# Altium footprint library Candunio.PcbLib: 17 footprints (part 1 of 2)
Each footprint in its own frame and in the unit in brackets; x right, y up, seen from the top. Pads: shape width x height; smd on the part's side, far side on the other; paste and mask are expansions set on the pad; w line width, h text height; cw(c..) or ccw(c..) is an arc to the next point about the centre after c.
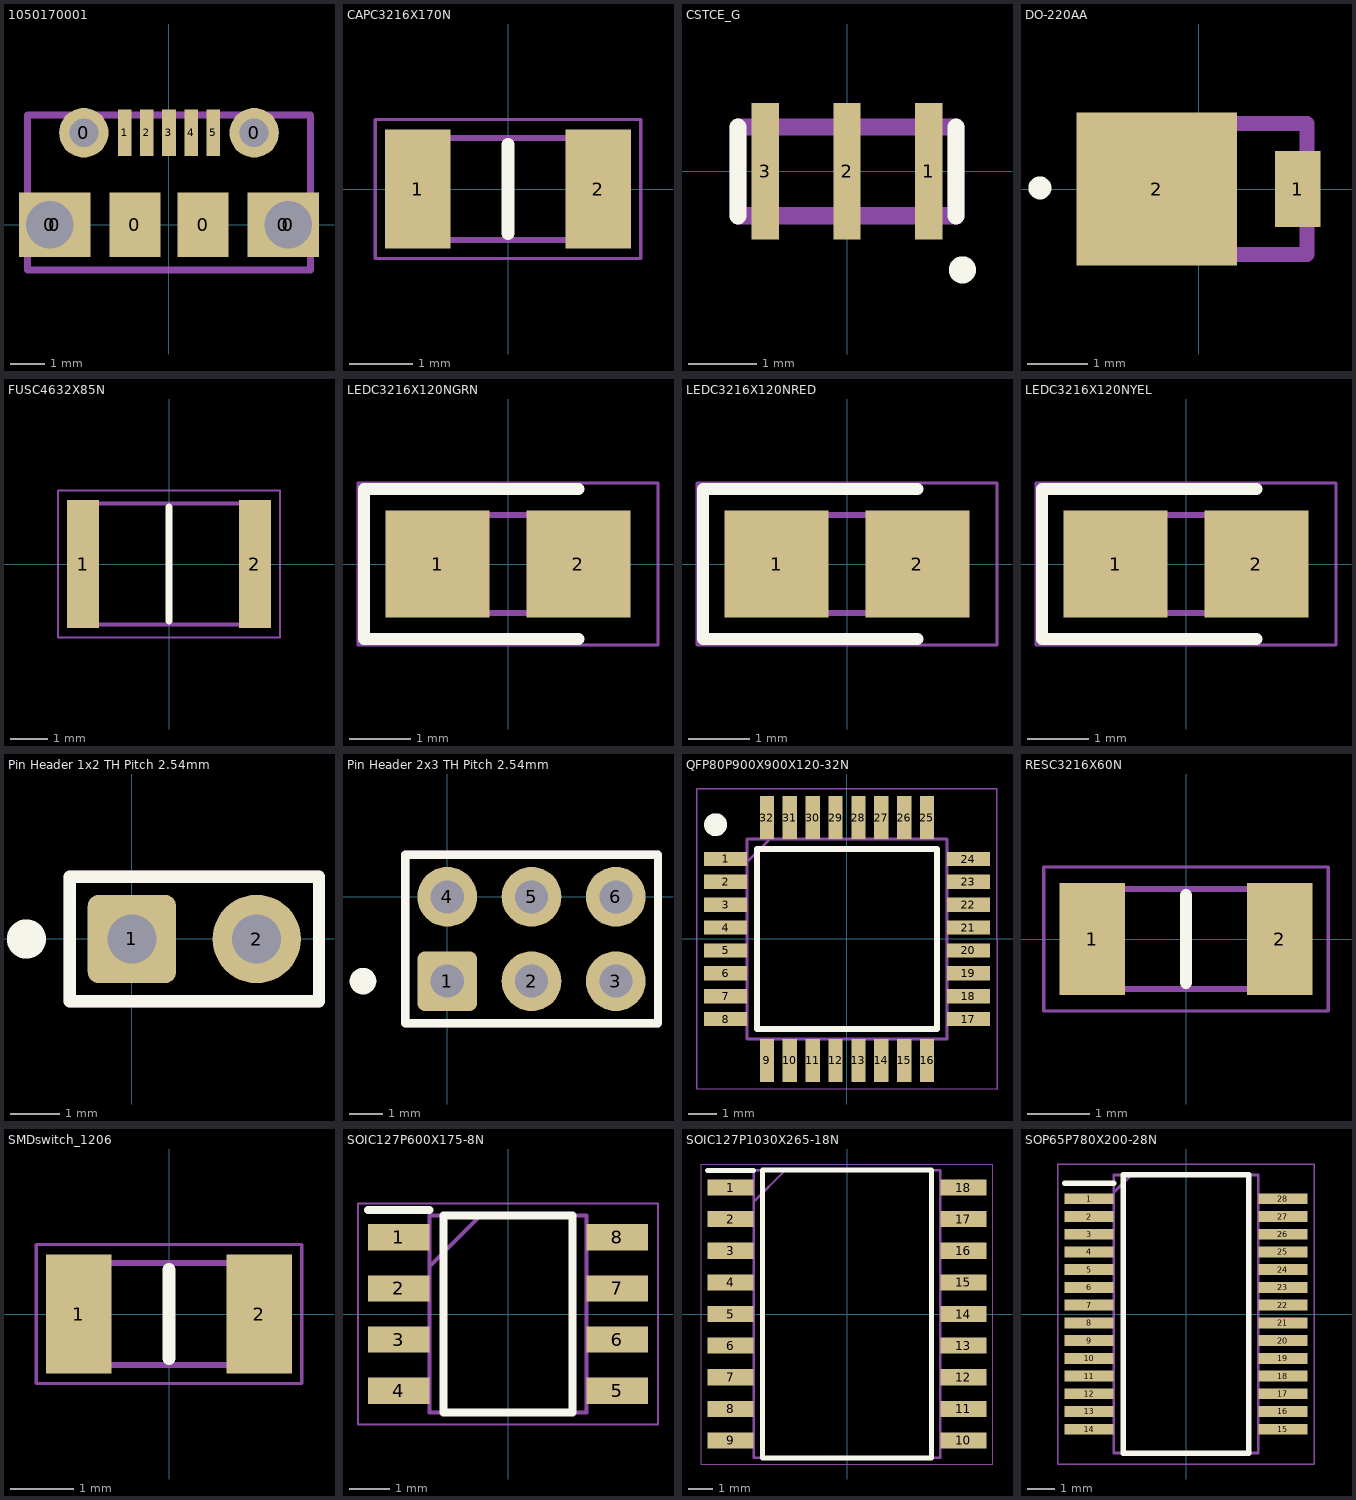
[diagram p0: the footprints below, top view; thin cyan lines are the x and y axes]

## 1050170001 [mm]
pads (13):
  round 1.8 hole 1.4: 0(-3.5,0) 0(3.5,0)
  rect 2.1x1.9 smd: 0(-3.35,0) 0(3.35,0)
  round 1.45 hole 0.85: 0(-2.5,2.7) 0(2.5,2.7)
  rect 1.5x1.9 smd: 0(-1,0) 0(1,0)
  rect 0.4x1.35 smd: 1(-1.3,2.7) 2(-0.65,2.7) 3(0,2.7) 4(0.65,2.7) 5(1.3,2.7)
Mechanical 15:
  lines w0.2: 4.1,3.225 -4.15,3.225 -4.15,-1.325 4.15,-1.325 4.15,3.225
3D body "1050170001.stp": height 2.78, standoff -0.53, extent -4.1,-2.5 4.1,2.9

## CAPC3216X170N [mm]
pads (2):
  rect 1.03x1.87 smd: 1(-1.42,0) 2(1.42,0)
Top Overlay:
  lines w0.2: 0,-0.7 0,0.7
Mechanical 15:
  lines w0.1: -1.6,-0.8 1.6,-0.8 1.6,0.8 -1.6,0.8 -1.6,-0.8
Mechanical 16:
  lines w0.05: -2.085,-1.09 2.085,-1.09 2.085,1.09 -2.085,1.09 -2.085,-1.09
3D body "VJ1206Y104JXQPW1BC.stp": height 1.7, standoff 0, extent -1.6,-0.8 1.6,0.8

## CSTCE_G [mm]
pads (3):
  rect 0.4x2 smd: 1(1.2,0) 2(0,0) 3(-1.2,0)
Top Overlay:
  circle w0.254: c1.693,-1.444 r0.072
  lines w0.254: -1.6,-0.65 -1.6,0.65 ; 1.6,-0.65 1.6,0.65
Mechanical 15:
  lines w0.254: -1.6,-0.65 1.6,-0.65 1.6,0.65 -1.6,0.65 -1.6,-0.65
3D body "ceramic-resonator-smd-3mm2x1mm3-muratea-cstce.stp": height 0.7, standoff 0, extent -1.6,-0.65 1.6,0.65

## DO-220AA [mil]
pads (2):
  rect 30x50 smd: 1(65.06,0)
  rect 105.12x100 smd: 2(-27.5,0)
Top Overlay:
  circle w10: c-104.06,0.75 r2.55
Mechanical 15:
  lines w10: -71.06,-42.91 -71.06,42.91 71.06,42.91 71.06,-42.91 -71.06,-42.91
3D body "SMP Package.STEP": height 39.37, standoff 0, extent -75.79,-40 75.78,39.92

## FUSC4632X85N [mm]
pads (2):
  rect 0.85x3.43 smd: 1(-2.3,0) 2(2.3,0)
Top Overlay:
  lines w0.2: 0,-1.52 0,1.52
Mechanical 15:
  lines w0.1: -2.275,-1.62 2.275,-1.62 2.275,1.62 -2.275,1.62 -2.275,-1.62
Mechanical 16:
  lines w0.05: -2.975,-1.965 2.975,-1.965 2.975,1.965 -2.975,1.965 -2.975,-1.965
3D body "fusegood.STEP": height 0.54, standoff -0.14, extent -2.535,-1.649 2.535,1.651
3D body: height 0.4, standoff 0, extent -0.737,-3.2 -0.737,-3.2

## LEDC3216X120NGRN [mm]
pads (2):
  rect 1.7x1.75 smd: 1(-1.15,0) 2(1.15,0)
Top Overlay:
  lines w0.2: 1.15,-1.225 -2.35,-1.225 -2.35,1.225 1.15,1.225
Mechanical 15:
  lines w0.1: -1.6,0.267 -1.067,0.8 ; -1.6,-0.8 1.6,-0.8 1.6,0.8 -1.6,0.8 -1.6,-0.8
Mechanical 16:
  lines w0.05: -2.45,-1.325 2.45,-1.325 2.45,1.325 -2.45,1.325 -2.45,-1.325
3D body "LED 1206 Grn.stp": height 1.1, standoff 0, extent -1.6,-0.8 1.6,0.8

## LEDC3216X120NRED [mm]
pads (2):
  rect 1.7x1.75 smd: 1(-1.15,0) 2(1.15,0)
Top Overlay:
  lines w0.2: 1.15,-1.225 -2.35,-1.225 -2.35,1.225 1.15,1.225
Mechanical 15:
  lines w0.1: -1.6,0.267 -1.067,0.8 ; -1.6,-0.8 -1.6,0.8 1.6,0.8 1.6,-0.8 -1.6,-0.8
Mechanical 16:
  lines w0.05: -2.45,-1.325 -2.45,1.325 2.45,1.325 2.45,-1.325 -2.45,-1.325
3D body "LED 1206 Red.stp": height 1.1, standoff 0, extent -1.6,-0.8 1.6,0.8

## LEDC3216X120NYEL [mm]
pads (2):
  rect 1.7x1.75 smd: 1(-1.15,0) 2(1.15,0)
Top Overlay:
  lines w0.2: 1.15,-1.225 -2.35,-1.225 -2.35,1.225 1.15,1.225
Mechanical 15:
  lines w0.1: -1.6,0.267 -1.067,0.8 ; -1.6,-0.8 -1.6,0.8 1.6,0.8 1.6,-0.8 -1.6,-0.8
Mechanical 16:
  lines w0.05: -2.45,-1.325 -2.45,1.325 2.45,1.325 2.45,-1.325 -2.45,-1.325
3D body "LED 1206 Yel.stp": height 1.1, standoff 0, extent -1.6,-0.8 1.6,0.8

## Pin Header 1x2 TH Pitch 2.54mm [mm]
pads (2):
  rrect25% 1.8x1.8 hole 1: 1(0,0)
  round 1.8 hole 1: 2(2.54,0)
Top Overlay:
  circle w0.5: c-2.15,0 r0.15
  lines w0.254: 1.27,1.27 -1.27,1.27 ; -1.27,1.27 -1.27,-1.27 3.81,-1.27 3.81,1.27 -1.27,1.27
Mechanical 3:
  lines w0.254: 1.27,1.27 -1.27,1.27 ; -1.27,1.27 -1.27,-1.27 3.81,-1.27 3.81,1.27 -1.27,1.27
3D body "Pin Header 1x2 TH Pitch 2.54mm.stp": height 9.5, standoff -3.2, extent -1.27,-1.27 3.81,1.27

## Pin Header 2x3 TH Pitch 2.54mm [mm]
pads (6):
  rrect25% 1.8x1.8 hole 1: 1(0,-2.54)
  round 1.8 hole 1: 2(2.54,-2.54) 3(5.08,-2.54) 4(0,0) 5(2.54,0) 6(5.08,0)
Top Overlay:
  circle w0.5: c-2.54,-2.54 r0.15
  lines w0.254: 1.27,1.27 -1.27,1.27 ; -1.27,1.27 -1.27,-1.27 -1.27,-3.81 6.35,-3.81 6.35,-1.27 6.35,1.27 -1.27,1.27
Mechanical 3:
  lines w0.254: 1.27,1.27 -1.27,1.27 ; -1.27,1.27 -1.27,-1.27 -1.27,-3.81 6.35,-3.81 6.35,-1.27 6.35,1.27 -1.27,1.27
3D body "Pin Header 1x3 TH Pitch 2.54mm.stp": height 9.5, standoff -3.2, extent -1.27,-3.81 6.35,-1.27
3D body "Pin Header 1x3 TH Pitch 2.54mm.stp": height 9.5, standoff -3.2, extent -1.27,-1.27 6.35,1.27
3D body "Pin Header 1x3 TH Pitch 2.54mm.stp": height 9.5, standoff -3.2, extent -1.27,-3.81 6.35,-1.27
3D body "Pin Header 1x3 TH Pitch 2.54mm.stp": height 9.5, standoff -3.2, extent -1.27,-1.27 6.35,1.27

## QFP80P900X900X120-32N [mm]
pads (32):
  rect 1.5x0.5 smd: 1(-4.25,2.8) 2(-4.25,2) 3(-4.25,1.2) 4(-4.25,0.4) 5(-4.25,-0.4) 6(-4.25,-1.2) 7(-4.25,-2) 8(-4.25,-2.8) 17(4.25,-2.8) 18(4.25,-2) 19(4.25,-1.2) 20(4.25,-0.4) 21(4.25,0.4) 22(4.25,1.2) 23(4.25,2) 24(4.25,2.8)
  rect 0.5x1.5 smd: 9(-2.8,-4.25) 10(-2,-4.25) 11(-1.2,-4.25) 12(-0.4,-4.25) 13(0.4,-4.25) 14(1.2,-4.25) 15(2,-4.25) 16(2.8,-4.25) 25(2.8,4.25) 26(2,4.25) 27(1.2,4.25) 28(0.4,4.25) 29(-0.4,4.25) 30(-1.2,4.25) 31(-2,4.25) 32(-2.8,4.25)
Top Overlay:
  circle w0.4: c-4.6,4 r0.2
  lines w0.2: -3.15,-3.15 3.15,-3.15 3.15,3.15 -3.15,3.15 -3.15,-3.15
Mechanical 15:
  lines w0.1: -3.5,2.7 -2.7,3.5 ; -3.5,-3.5 3.5,-3.5 3.5,3.5 -3.5,3.5 -3.5,-3.5
Mechanical 16:
  lines w0.05: -5.25,-5.25 5.25,-5.25 5.25,5.25 -5.25,5.25 -5.25,-5.25
3D body: height 0.25, standoff 0, extent -0.254,-0.381 0.127,0
3D body "ATMEGA328P-AU.stp": height 1.2, standoff 0, extent -4.5,-4.5 4.5,4.5

## RESC3216X60N [mm]
pads (2):
  rect 1.05x1.8 smd: 1(-1.5,0) 2(1.5,0)
Top Overlay:
  lines w0.2: 0,-0.7 0,0.7
Mechanical 15:
  lines w0.1: -1.575,-0.8 1.575,-0.8 1.575,0.8 -1.575,0.8 -1.575,-0.8
Mechanical 16:
  lines w0.05: -2.275,-1.15 2.275,-1.15 2.275,1.15 -2.275,1.15 -2.275,-1.15
3D body: height 1.2, standoff 0, extent 0,-0.025 0,-0.025
3D body "CRCW12063K30FKEAC.stp": height 0.6, standoff 0, extent -1.575,-0.825 1.575,0.775

## SMDswitch_1206 [mm]
pads (2):
  rect 1.03x1.87 smd: 1(-1.42,0) 2(1.42,0)
Top Overlay:
  lines w0.2: 0,-0.7 0,0.7
Mechanical 15:
  lines w0.1: -1.6,-0.8 1.6,-0.8 1.6,0.8 -1.6,0.8 -1.6,-0.8
Mechanical 16:
  lines w0.05: -2.085,-1.09 2.085,-1.09 2.085,1.09 -2.085,1.09 -2.085,-1.09
3D body "tact_switch_K2-1808SN-A4SW.STEP": height 0.46, standoff -0.02, extent -1.53,-0.812 1.53,0.813

## SOIC127P600X175-8N [mm]
pads (8):
  rect 1.525x0.65 smd: 1(-2.712,1.905) 2(-2.712,0.635) 3(-2.712,-0.635) 4(-2.712,-1.905) 5(2.712,-1.905) 6(2.712,-0.635) 7(2.712,0.635) 8(2.712,1.905)
Top Overlay:
  lines w0.2: -3.475,2.58 -1.95,2.58 ; -1.6,-2.45 1.6,-2.45 1.6,2.45 -1.6,2.45 -1.6,-2.45
Mechanical 15:
  lines w0.1: -1.95,1.18 -0.68,2.45 ; -1.95,-2.45 1.95,-2.45 1.95,2.45 -1.95,2.45 -1.95,-2.45
Mechanical 16:
  lines w0.05: -3.725,-2.75 3.725,-2.75 3.725,2.75 -3.725,2.75 -3.725,-2.75
3D body "SN65HVD1050D.stp": height 1.75, standoff 0, extent -3,-2.45 3,2.45

## SOIC127P1030X265-18N [mm]
pads (18):
  rect 1.85x0.65 smd: 1(-4.675,5.08) 2(-4.675,3.81) 3(-4.675,2.54) 4(-4.675,1.27) 5(-4.675,0) 6(-4.675,-1.27) 7(-4.675,-2.54) 8(-4.675,-3.81) 9(-4.675,-5.08) 10(4.675,-5.08) 11(4.675,-3.81) 12(4.675,-2.54) 13(4.675,-1.27) 14(4.675,0) 15(4.675,1.27) 16(4.675,2.54) 17(4.675,3.81) 18(4.675,5.08)
Top Overlay:
  lines w0.2: -5.6,5.755 -3.75,5.755 ; -3.4,-5.775 -3.4,5.775 3.4,5.775 3.4,-5.775 -3.4,-5.775
Mechanical 15:
  lines w0.1: -3.75,4.505 -2.48,5.775 ; -3.75,-5.775 -3.75,5.775 3.75,5.775 3.75,-5.775 -3.75,-5.775
Mechanical 16:
  lines w0.05: -5.85,-6.025 -5.85,6.025 5.85,6.025 5.85,-6.025 -5.85,-6.025
3D body "MCP2515-E_SO.stp": height 2.65, standoff 0, extent -5.15,-5.775 5.15,5.775

## SOP65P780X200-28N [mm]
pads (28):
  rect 1.8x0.4 smd: 1(-3.55,4.225) 2(-3.55,3.575) 3(-3.55,2.925) 4(-3.55,2.275) 5(-3.55,1.625) 6(-3.55,0.975) 7(-3.55,0.325) 8(-3.55,-0.325) 9(-3.55,-0.975) 10(-3.55,-1.625) 11(-3.55,-2.275) 12(-3.55,-2.925) 13(-3.55,-3.575) 14(-3.55,-4.225) 15(3.55,-4.225) 16(3.55,-3.575) 17(3.55,-2.925) 18(3.55,-2.275) 19(3.55,-1.625) 20(3.55,-0.975) 21(3.55,-0.325) 22(3.55,0.325) 23(3.55,0.975) 24(3.55,1.625) 25(3.55,2.275) 26(3.55,2.925) 27(3.55,3.575) 28(3.55,4.225)
Top Overlay:
  lines w0.2: -4.45,4.8 -2.65,4.8 ; -2.3,-5.1 2.3,-5.1 2.3,5.1 -2.3,5.1 -2.3,-5.1
Mechanical 15:
  lines w0.1: -2.65,4.45 -2,5.1 ; -2.65,-5.1 2.65,-5.1 2.65,5.1 -2.65,5.1 -2.65,-5.1
Mechanical 16:
  lines w0.05: -4.7,-5.5 4.7,-5.5 4.7,5.5 -4.7,5.5 -4.7,-5.5
3D body "FT232RL-REEL.stp": height 2, standoff 0, extent -3.9,-5.1 3.9,5.1